# Altium footprint library KF250_2.54.PcbLib: 4 footprints
Each footprint in its own frame and in the unit in brackets; x right, y up, seen from the top. Pads: shape width x height; smd on the part's side, far side on the other; paste and mask are expansions set on the pad; w line width, h text height; cw(c..) or ccw(c..) is an arc to the next point about the centre after c.
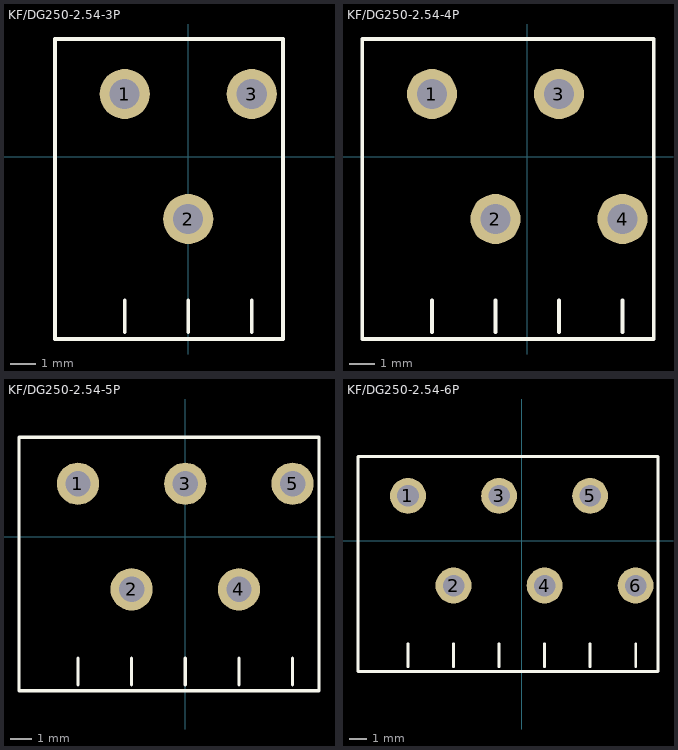
[diagram p0: the footprints below, top view; thin cyan lines are the x and y axes]

## KF/DG250-2.54-3P [mm]
pads (3):
  round 2 hole 1.2: 1(-2.54,2.5) 2(0,-2.5) 3(2.54,2.5)
Top Overlay:
  lines w0.15: -2.54,-7.025 -2.54,-5.755 ; 0,-7.025 0,-5.755 ; 2.54,-7.025 2.54,-5.755 ; -5.33,-7.3 -5.33,4.7 3.79,4.7 3.79,-7.3 -5.33,-7.3
3D body "_model1.stp": height 13.1, standoff -3.5, extent -5.43,-7.375 3.89,4.625

## KF/DG250-2.54-4P [mm]
pads (4):
  round 2 hole 1.2: 1(-3.81,2.5) 2(-1.27,-2.5) 3(1.27,2.5) 4(3.81,-2.5)
Top Overlay:
  lines w0.15: -3.81,-7.025 -3.81,-5.755 ; -1.27,-7.025 -1.27,-5.755 ; 1.27,-7.025 1.27,-5.755 ; 3.81,-7.025 3.81,-5.755 ; -6.6,-7.3 5.06,-7.3 5.06,4.7 -6.6,4.7 -6.6,-7.3

## KF/DG250-2.54-5P [mm]
pads (5):
  round 2 hole 1.2: 1(-5.08,2.5) 2(-2.54,-2.5) 3(0,2.5) 4(2.54,-2.5) 5(5.08,2.5)
Top Overlay:
  lines w0.15: -5.08,-7.025 -5.08,-5.755 ; -2.54,-7.025 -2.54,-5.755 ; 0,-7.025 0,-5.755 ; 2.54,-7.025 2.54,-5.755 ; 5.08,-7.025 5.08,-5.755 ; -7.87,-7.3 -7.87,4.7 6.33,4.7 6.33,-7.3 -7.87,-7.3

## KF/DG250-2.54-6P [mm]
pads (6):
  round 2 hole 1.2: 1(-6.35,2.5) 2(-3.81,-2.5) 3(-1.27,2.5) 4(1.27,-2.5) 5(3.81,2.5) 6(6.35,-2.5)
Top Overlay:
  lines w0.15: -6.35,-7.025 -6.35,-5.755 ; -3.81,-7.025 -3.81,-5.755 ; -1.27,-7.025 -1.27,-5.755 ; 1.27,-7.025 1.27,-5.755 ; 3.81,-7.025 3.81,-5.755 ; 6.35,-7.025 6.35,-5.755 ; -9.14,-7.3 7.6,-7.3 7.6,4.7 -9.14,4.7 -9.14,-7.3